# Altium schematic symbol library RES_330ohm_805pkg.SchLib: 1 symbol
Pins are listed as number, name and electrical type; pins without a type are passive.

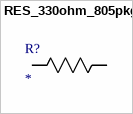
[diagram p0: symbol RES_330ohm_805pkg]

## RES_330ohm_805pkg
designator R?
No Description Available; Mfr_Name: Vishay
footprint RES_CRCW_0805_VIS
pins: 1, 2